# EAGLE library part CON-DB9-MALE (library steves)
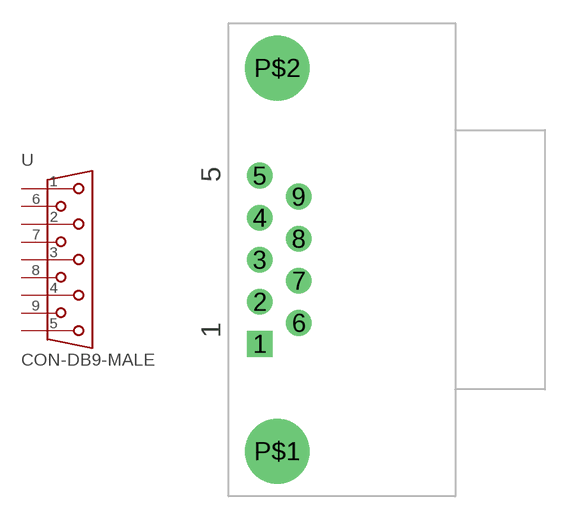
[diagram p15: symbol with the pads of CON-DB-9-RA; footprint CON-DB-9-RA]

Designator prefix -

## CON-DB9-MALERA  [CON-DB-9-RA]
1  1  pas
2  3  pas
3  5  pas
4  7  pas
5  9  pas
6  2  pas
7  4  pas
8  6  pas
9  8  pas

## Footprint CON-DB-9-RA (pad centres in mm)
Cannon ZDE9P-1AKN-146
drill 0.9 pad 1.676 square: 1 0,-5.486
drill 0.9 pad 1.676: 2 0,-2.743; 3 0,0; 4 0,2.743; 5 0,5.486; 6 2.54,-4.115; 7 2.54,-1.372; 8 2.54,1.372; 9 2.54,4.115
drill 3.2: P$1 1.143,-12.497; P$2 1.143,12.497